# EAGLE library part ATTINY85-20SU (library Microcontroller)
IC MCU 8BIT 8KB FLASH 8SOIC Manufacturer's datasheet <http://ww1.microchip.com/downloads/en/DeviceDoc/Atmel-2586-AVR-8-bit-Microcontroller-ATtiny25-ATtiny45-ATtiny85_Datasheet-Summary.pdf>
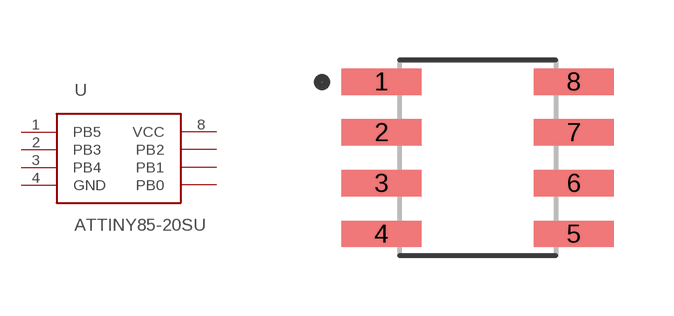
[diagram p20: symbol with the pads of SOIC-8; footprint SOIC-8]

Designator prefix U

## ATTINY85-20SU (CREATED_BY: PCBLayout.com; DIGI_KEY_PART_NUMBER: ATTINY85-20SU-ND; MANUFACTURER: Microchip Technology; MPN: ATTINY85-20SU; PACKAGE: 8-SOIC)  [SOIC-8]
1  PB5
2  PB3
3  PB4
4  GND  pwr
5  PB0
6  PB1
7  PB2
8  VCC  pwr

## Footprint SOIC-8 (pad centres in mm)
smd 2 x 0.66: 1 -2.405,1.905; 2 -2.405,0.635; 3 -2.405,-0.635; 4 -2.405,-1.905; 5 2.405,-1.905; 6 2.405,-0.635; 7 2.405,0.635; 8 2.405,1.905